# Altium schematic symbol library 691 311 500 0xx.SchLib: 23 symbols
Pins are listed as number, name and electrical type; pins without a type are passive.

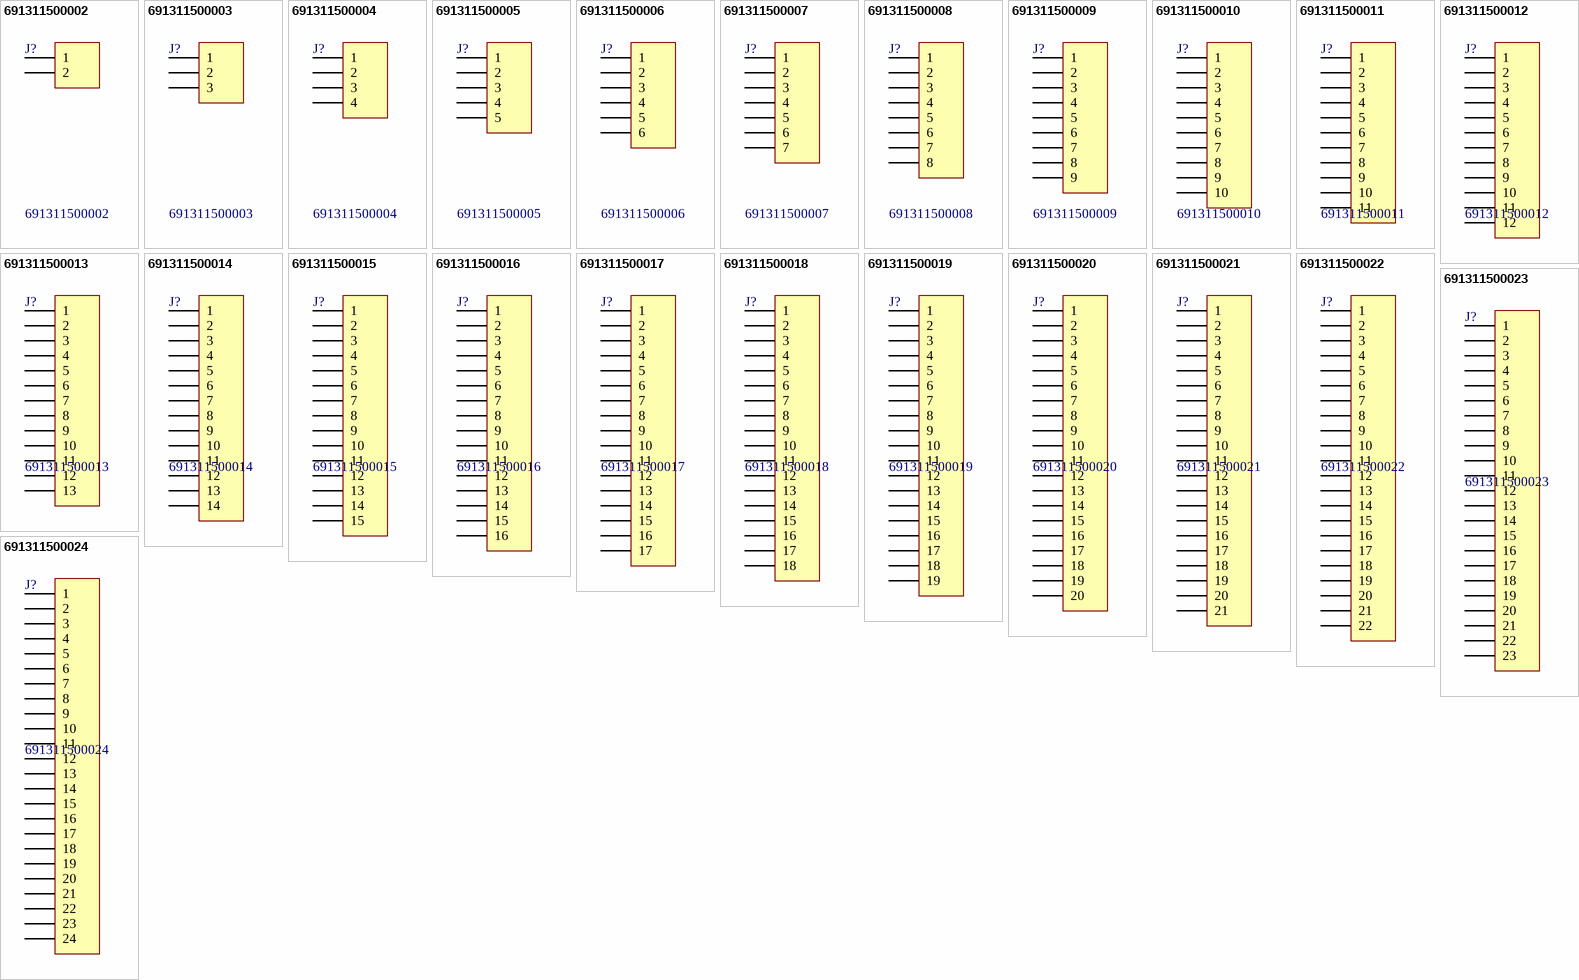
[diagram p0: symbols 691311500002 to 691311500024]

## 691311500002
designator J?
WR-TBL Terminal block - serie 311 - 5.08mm; Manufacturer: Würth Elektronik eiSos GmbH; ComponentLink1 Description: Manufacturer; ComponentLink2 Description: Datasheet; NoPins: 02; Created Date: 9 January 2014; partNo: 691311500002; ComponentLink1URL: http://www.we-online.com; ComponentLink2URL: http://katalog.we-online.de/em/datasheet/6913115000xx.pdf; Created by: Karrer Zheng; Value: 691311500002
footprint 691311500002 (5,08mm - PCB Headers - Vertical - Opened ends -02p)
pins: 1, 2

## 691311500003
designator J?
WR-TBL Terminal block - serie 311 - 5.08mm; Manufacturer: Würth Elektronik eiSos GmbH; ComponentLink1 Description: Manufacturer; ComponentLink2 Description: Datasheet; NoPins: 03; Created Date: 9 January 2014; partNo: 691311500003; ComponentLink1URL: http://www.we-online.com; ComponentLink2URL: http://katalog.we-online.de/em/datasheet/6913115000xx.pdf; Created by: Karrer Zheng; Value: 691311500003
footprint 691311500003 (5,08mm - PCB Headers - Vertical - Opened ends -03p)
pins: 1, 2, 3

## 691311500004
designator J?
WR-TBL Terminal block - serie 311 - 5.08mm; Manufacturer: Würth Elektronik eiSos GmbH; ComponentLink1 Description: Manufacturer; ComponentLink2 Description: Datasheet; NoPins: 04; Created Date: 9 January 2014; partNo: 691311500004; ComponentLink1URL: http://www.we-online.com; ComponentLink2URL: http://katalog.we-online.de/em/datasheet/6913115000xx.pdf; Created by: Karrer Zheng; Value: 691311500004
footprint 691311500004 (5,08mm - PCB Headers - Vertical - Opened ends -04p)
pins: 1, 2, 3, 4

## 691311500005
designator J?
WR-TBL Terminal block - serie 311 - 5.08mm; Manufacturer: Würth Elektronik eiSos GmbH; ComponentLink1 Description: Manufacturer; ComponentLink2 Description: Datasheet; NoPins: 05; Created Date: 9 January 2014; partNo: 691311500005; ComponentLink1URL: http://www.we-online.com; ComponentLink2URL: http://katalog.we-online.de/em/datasheet/6913115000xx.pdf; Created by: Karrer Zheng; Value: 691311500005
footprint 691311500005 (5,08mm - PCB Headers - Vertical - Opened ends -05p)
pins: 1, 2, 3, 4, 5

## 691311500006
designator J?
WR-TBL Terminal block - serie 311 - 5.08mm; Manufacturer: Würth Elektronik eiSos GmbH; ComponentLink1 Description: Manufacturer; ComponentLink2 Description: Datasheet; NoPins: 06; Created Date: 9 January 2014; partNo: 691311500006; ComponentLink1URL: http://www.we-online.com; ComponentLink2URL: http://katalog.we-online.de/em/datasheet/6913115000xx.pdf; Created by: Karrer Zheng; Value: 691311500006
footprint 691311500006 (5,08mm - PCB Headers - Vertical - Opened ends -06p)
pins: 1, 2, 3, 4, 5, 6

## 691311500007
designator J?
WR-TBL Terminal block - serie 311 - 5.08mm; Manufacturer: Würth Elektronik eiSos GmbH; ComponentLink1 Description: Manufacturer; ComponentLink2 Description: Datasheet; NoPins: 07; Created Date: 9 January 2014; partNo: 691311500007; ComponentLink1URL: http://www.we-online.com; ComponentLink2URL: http://katalog.we-online.de/em/datasheet/6913115000xx.pdf; Created by: Karrer Zheng; Value: 691311500007
footprint 691311500007 (5,08mm - PCB Headers - Vertical - Opened ends -07p)
pins: 1, 2, 3, 4, 5, 6, 7

## 691311500008
designator J?
WR-TBL Terminal block - serie 311 - 5.08mm; Manufacturer: Würth Elektronik eiSos GmbH; ComponentLink1 Description: Manufacturer; ComponentLink2 Description: Datasheet; NoPins: 08; Created Date: 9 January 2014; partNo: 691311500008; ComponentLink1URL: http://www.we-online.com; ComponentLink2URL: http://katalog.we-online.de/em/datasheet/6913115000xx.pdf; Created by: Karrer Zheng; Value: 691311500008
footprint 691311500008 (5,08mm - PCB Headers - Vertical - Opened ends -08p)
pins: 1, 2, 3, 4, 5, 6, 7, 8

## 691311500009
designator J?
WR-TBL Terminal block - serie 311 - 5.08mm; Manufacturer: Würth Elektronik eiSos GmbH; ComponentLink1 Description: Manufacturer; ComponentLink2 Description: Datasheet; NoPins: 09; Created Date: 9 January 2014; partNo: 691311500009; ComponentLink1URL: http://www.we-online.com; ComponentLink2URL: http://katalog.we-online.de/em/datasheet/6913115000xx.pdf; Created by: Karrer Zheng; Value: 691311500009
footprint 691311500009 (5,08mm - PCB Headers - Vertical - Opened ends -09p)
pins: 1, 2, 3, 4, 5, 6, 7, 8, 9

## 691311500010
designator J?
WR-TBL Terminal block - serie 311 - 5.08mm; Manufacturer: Würth Elektronik eiSos GmbH; ComponentLink1 Description: Manufacturer; ComponentLink2 Description: Datasheet; NoPins: 10; Created Date: 9 January 2014; partNo: 691311500010; ComponentLink1URL: http://www.we-online.com; ComponentLink2URL: http://katalog.we-online.de/em/datasheet/6913115000xx.pdf; Created by: Karrer Zheng; Value: 691311500010
footprint 691311500010 (5,08mm - PCB Headers - Vertical - Opened ends -10p)
pins: 1, 2, 3, 4, 5, 6, 7, 8, 9, 10

## 691311500011
designator J?
WR-TBL Terminal block - serie 311 - 5.08mm; Manufacturer: Würth Elektronik eiSos GmbH; ComponentLink1 Description: Manufacturer; ComponentLink2 Description: Datasheet; NoPins: 11; Created Date: 9 January 2014; partNo: 691311500011; ComponentLink1URL: http://www.we-online.com; ComponentLink2URL: http://katalog.we-online.de/em/datasheet/6913115000xx.pdf; Created by: Karrer Zheng; Value: 691311500011
footprint 691311500011 (5,08mm - PCB Headers - Vertical - Opened ends -11p)
pins: 1, 2, 3, 4, 5, 6, 7, 8, 9, 10, 11

## 691311500012
designator J?
WR-TBL Terminal block - serie 311 - 5.08mm; Manufacturer: Würth Elektronik eiSos GmbH; ComponentLink1 Description: Manufacturer; ComponentLink2 Description: Datasheet; NoPins: 12; Created Date: 9 January 2014; partNo: 691311500012; ComponentLink1URL: http://www.we-online.com; ComponentLink2URL: http://katalog.we-online.de/em/datasheet/6913115000xx.pdf; Created by: Karrer Zheng; Value: 691311500012
footprint 691311500012 (5,08mm - PCB Headers - Vertical - Opened ends -12p)
pins: 1, 2, 3, 4, 5, 6, 7, 8, 9, 10, 11, 12

## 691311500013
designator J?
WR-TBL Terminal block - serie 311 - 5.08mm; Manufacturer: Würth Elektronik eiSos GmbH; ComponentLink1 Description: Manufacturer; ComponentLink2 Description: Datasheet; NoPins: 13; Created Date: 9 January 2014; partNo: 691311500013; ComponentLink1URL: http://www.we-online.com; ComponentLink2URL: http://katalog.we-online.de/em/datasheet/6913115000xx.pdf; Created by: Karrer Zheng; Value: 691311500013
footprint 691311500013 (5,08mm - PCB Headers - Vertical - Opened ends -13p)
pins: 1, 2, 3, 4, 5, 6, 7, 8, 9, 10, 11, 12, 13

## 691311500014
designator J?
WR-TBL Terminal block - serie 311 - 5.08mm; Manufacturer: Würth Elektronik eiSos GmbH; ComponentLink1 Description: Manufacturer; ComponentLink2 Description: Datasheet; NoPins: 14; Created Date: 9 January 2014; partNo: 691311500014; ComponentLink1URL: http://www.we-online.com; ComponentLink2URL: http://katalog.we-online.de/em/datasheet/6913115000xx.pdf; Created by: Karrer Zheng; Value: 691311500014
footprint 691311500014 (5,08mm - PCB Headers - Vertical - Opened ends -14p)
pins: 1, 2, 3, 4, 5, 6, 7, 8, 9, 10, 11, 12, 13, 14

## 691311500015
designator J?
WR-TBL Terminal block - serie 311 - 5.08mm; Manufacturer: Würth Elektronik eiSos GmbH; ComponentLink1 Description: Manufacturer; ComponentLink2 Description: Datasheet; NoPins: 15; Created Date: 9 January 2014; partNo: 691311500015; ComponentLink1URL: http://www.we-online.com; ComponentLink2URL: http://katalog.we-online.de/em/datasheet/6913115000xx.pdf; Created by: Karrer Zheng; Value: 691311500015
footprint 691311500015 (5,08mm - PCB Headers - Vertical - Opened ends -15p)
pins: 1, 2, 3, 4, 5, 6, 7, 8, 9, 10, 11, 12, 13, 14, 15

## 691311500016
designator J?
WR-TBL Terminal block - serie 311 - 5.08mm; Manufacturer: Würth Elektronik eiSos GmbH; ComponentLink1 Description: Manufacturer; ComponentLink2 Description: Datasheet; NoPins: 16; Created Date: 9 January 2014; partNo: 691311500016; ComponentLink1URL: http://www.we-online.com; ComponentLink2URL: http://katalog.we-online.de/em/datasheet/6913115000xx.pdf; Created by: Karrer Zheng; Value: 691311500016
footprint 691311500016 (5,08mm - PCB Headers - Vertical - Opened ends -16p)
pins: 1, 2, 3, 4, 5, 6, 7, 8, 9, 10, 11, 12, 13, 14, 15, 16

## 691311500017
designator J?
WR-TBL Terminal block - serie 311 - 5.08mm; Manufacturer: Würth Elektronik eiSos GmbH; ComponentLink1 Description: Manufacturer; ComponentLink2 Description: Datasheet; NoPins: 17; Created Date: 9 January 2014; partNo: 691311500017; ComponentLink1URL: http://www.we-online.com; ComponentLink2URL: http://katalog.we-online.de/em/datasheet/6913115000xx.pdf; Created by: Karrer Zheng; Value: 691311500017
footprint 691311500017 (5,08mm - PCB Headers - Vertical - Opened ends -17p)
pins: 1, 2, 3, 4, 5, 6, 7, 8, 9, 10, 11, 12, 13, 14, 15, 16, 17

## 691311500018
designator J?
WR-TBL Terminal block - serie 311 - 5.08mm; Manufacturer: Würth Elektronik eiSos GmbH; ComponentLink1 Description: Manufacturer; ComponentLink2 Description: Datasheet; NoPins: 18; Created Date: 9 January 2014; partNo: 691311500018; ComponentLink1URL: http://www.we-online.com; ComponentLink2URL: http://katalog.we-online.de/em/datasheet/6913115000xx.pdf; Created by: Karrer Zheng; Value: 691311500018
footprint 691311500018 (5,08mm - PCB Headers - Vertical - Opened ends -18p)
pins: 1, 2, 3, 4, 5, 6, 7, 8, 9, 10, 11, 12, 13, 14, 15, 16, 17, 18

## 691311500019
designator J?
WR-TBL Terminal block - serie 311 - 5.08mm; Manufacturer: Würth Elektronik eiSos GmbH; ComponentLink1 Description: Manufacturer; ComponentLink2 Description: Datasheet; NoPins: 19; Created Date: 9 January 2014; partNo: 691311500019; ComponentLink1URL: http://www.we-online.com; ComponentLink2URL: http://katalog.we-online.de/em/datasheet/6913115000xx.pdf; Created by: Karrer Zheng; Value: 691311500019
footprint 691311500019 (5,08mm - PCB Headers - Vertical - Opened ends -19p)
pins: 1, 2, 3, 4, 5, 6, 7, 8, 9, 10, 11, 12, 13, 14, 15, 16, 17, 18, 19

## 691311500020
designator J?
WR-TBL Terminal block - serie 311 - 5.08mm; Manufacturer: Würth Elektronik eiSos GmbH; ComponentLink1 Description: Manufacturer; ComponentLink2 Description: Datasheet; NoPins: 20; Created Date: 9 January 2014; partNo: 691311500020; ComponentLink1URL: http://www.we-online.com; ComponentLink2URL: http://katalog.we-online.de/em/datasheet/6913115000xx.pdf; Created by: Karrer Zheng; Value: 691311500020
footprint 691311500020 (5,08mm - PCB Headers - Vertical - Opened ends -20p)
pins: 1, 2, 3, 4, 5, 6, 7, 8, 9, 10, 11, 12, 13, 14, 15, 16, 17, 18, 19, 20

## 691311500021
designator J?
WR-TBL Terminal block - serie 311 - 5.08mm; Manufacturer: Würth Elektronik eiSos GmbH; ComponentLink1 Description: Manufacturer; ComponentLink2 Description: Datasheet; NoPins: 21; Created Date: 9 January 2014; partNo: 691311500021; ComponentLink1URL: http://www.we-online.com; ComponentLink2URL: http://katalog.we-online.de/em/datasheet/6913115000xx.pdf; Created by: Karrer Zheng; Value: 691311500021
footprint 691311500021 (5,08mm - PCB Headers - Vertical - Opened ends -21p)
pins: 1, 2, 3, 4, 5, 6, 7, 8, 9, 10, 11, 12, 13, 14, 15, 16, 17, 18, 19, 20, 21

## 691311500022
designator J?
WR-TBL Terminal block - serie 311 - 5.08mm; Manufacturer: Würth Elektronik eiSos GmbH; ComponentLink1 Description: Manufacturer; ComponentLink2 Description: Datasheet; NoPins: 22; Created Date: 9 January 2014; partNo: 691311500022; ComponentLink1URL: http://www.we-online.com; ComponentLink2URL: http://katalog.we-online.de/em/datasheet/6913115000xx.pdf; Created by: Karrer Zheng; Value: 691311500022
footprint 691311500022 (5,08mm - PCB Headers - Vertical - Opened ends -22p)
pins: 1, 2, 3, 4, 5, 6, 7, 8, 9, 10, 11, 12, 13, 14, 15, 16, 17, 18, 19, 20, 21, 22

## 691311500023
designator J?
WR-TBL Terminal block - serie 311 - 5.08mm; Manufacturer: Würth Elektronik eiSos GmbH; ComponentLink1 Description: Manufacturer; ComponentLink2 Description: Datasheet; NoPins: 23; Created Date: 9 January 2014; partNo: 691311500023; ComponentLink1URL: http://www.we-online.com; ComponentLink2URL: http://katalog.we-online.de/em/datasheet/6913115000xx.pdf; Created by: Karrer Zheng; Value: 691311500023
footprint 691311500023 (5,08mm - PCB Headers - Vertical - Opened ends -23p)
pins: 1, 2, 3, 4, 5, 6, 7, 8, 9, 10, 11, 12, 13, 14, 15, 16, 17, 18, 19, 20, 21, 22, 23

## 691311500024
designator J?
WR-TBL Terminal block - serie 311 - 5.08mm; Manufacturer: Würth Elektronik eiSos GmbH; ComponentLink1 Description: Manufacturer; ComponentLink2 Description: Datasheet; NoPins: 24; Created Date: 9 January 2014; partNo: 691311500024; ComponentLink1URL: http://www.we-online.com; ComponentLink2URL: http://katalog.we-online.de/em/datasheet/6913115000xx.pdf; Created by: Karrer Zheng; Value: 691311500024
footprint 691311500024 (5,08mm - PCB Headers - Vertical - Opened ends -24p)
pins: 1, 2, 3, 4, 5, 6, 7, 8, 9, 10, 11, 12, 13, 14, 15, 16, 17, 18, 19, 20, 21, 22, 23, 24